# Altium footprint library SSOP.PcbLib: 4 footprints
Each footprint in its own frame and in the unit in brackets; x right, y up, seen from the top. Pads: shape width x height; smd on the part's side, far side on the other; paste and mask are expansions set on the pad; w line width, h text height; cw(c..) or ccw(c..) is an arc to the next point about the centre after c.
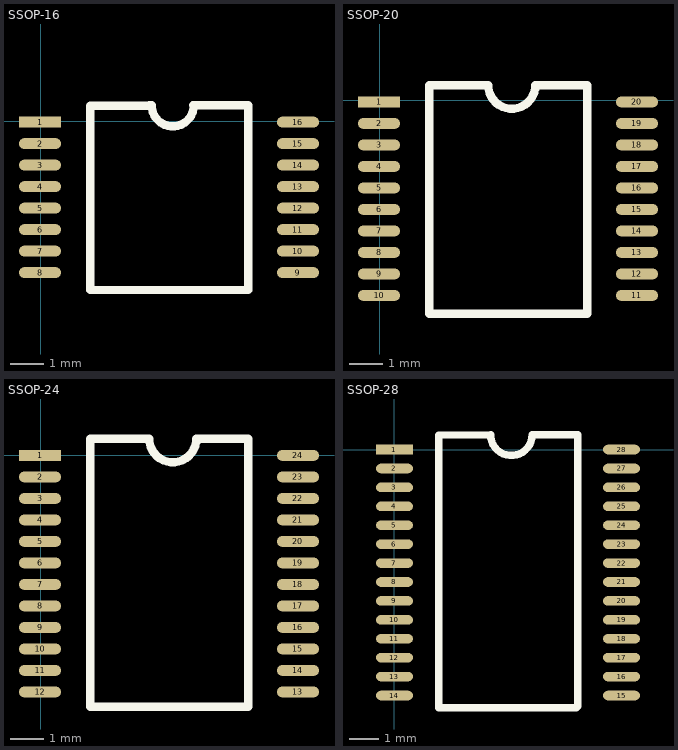
[diagram p0: the footprints below, top view; thin cyan lines are the x and y axes]

## SSOP-16 [mm]
pads (16):
  rect 1.27x0.33 smd: 1(-0.025,-0.025)
  oval 1.27x0.33 smd: 2(-0.025,-0.675) 3(-0.025,-1.325) 4(-0.025,-1.975) 5(-0.025,-2.625) 6(-0.025,-3.275) 7(-0.025,-3.925) 8(-0.025,-4.575) 9(7.775,-4.575) 10(7.775,-3.925) 11(7.775,-3.275) 12(7.775,-2.625) 13(7.775,-1.975) 14(7.775,-1.325) 15(7.775,-0.675) 16(7.775,-0.025)
Top Overlay:
  lines w0.254: 1.499,-5.1 1.499,0.475 3.269,0.475 3.277,0.483 ; 1.549,-5.1 6.274,-5.1 6.274,0.475 6.266,0.483 4.6,0.483 ; 3.353,0.483 ccw(c3.988,0.483) 4.623,0.483

## SSOP-20 [mm]
pads (20):
  rect 1.27x0.33 smd: 1(-0.025,-0.051)
  oval 1.27x0.33 smd: 2(-0.025,-0.701) 3(-0.025,-1.351) 4(-0.025,-2.001) 5(-0.025,-2.651) 6(-0.025,-3.301) 7(-0.025,-3.951) 8(-0.025,-4.601) 9(-0.025,-5.251) 10(-0.025,-5.901) 11(7.775,-5.901) 12(7.775,-5.251) 13(7.775,-4.601) 14(7.775,-3.951) 15(7.775,-3.301) 16(7.775,-2.651) 17(7.775,-2.001) 18(7.775,-1.351) 19(7.775,-0.701) 20(7.775,-0.051)
Top Overlay:
  lines w0.254: 6.223,-6.45 1.499,-6.45 1.499,0.449 3.269,0.449 3.277,0.457 ccw(c3.99,0.457) 4.703,0.457 6.266,0.457 6.274,0.449 6.274,-6.45

## SSOP-24 [mm]
pads (24):
  rect 1.27x0.33 smd: 1(-0.025,0)
  oval 1.27x0.33 smd: 2(-0.025,-0.65) 3(-0.025,-1.3) 4(-0.025,-1.95) 5(-0.025,-2.6) 6(-0.025,-3.25) 7(-0.025,-3.9) 8(-0.025,-4.55) 9(-0.025,-5.2) 10(-0.025,-5.85) 11(-0.025,-6.5) 12(-0.025,-7.15) 13(7.775,-7.15) 14(7.775,-6.5) 15(7.775,-5.85) 16(7.775,-5.2) 17(7.775,-4.55) 18(7.775,-3.9) 19(7.775,-3.25) 20(7.775,-2.6) 21(7.775,-1.95) 22(7.775,-1.3) 23(7.775,-0.65) 24(7.775,0)
Top Overlay:
  lines w0.254: 6.223,-7.6 1.499,-7.6 1.499,0.5 3.269,0.5 3.277,0.508 ccw(c3.99,0.508) 4.703,0.508 6.266,0.508 6.274,0.5 6.274,-7.6

## SSOP-28 [mm]
pads (28):
  rect 1.27x0.33 smd: 1(0,0)
  oval 1.27x0.33 smd: 2(0,-0.65) 3(0,-1.3) 4(0,-1.95) 5(0,-2.6) 6(0,-3.25) 7(0,-3.9) 8(0,-4.55) 9(0,-5.2) 10(0,-5.85) 11(0,-6.5) 12(0,-7.15) 13(0,-7.8) 14(0,-8.45) 15(7.8,-8.45) 16(7.8,-7.8) 17(7.8,-7.15) 18(7.8,-6.5) 19(7.8,-5.85) 20(7.8,-5.2) 21(7.8,-4.55) 22(7.8,-3.9) 23(7.8,-3.25) 24(7.8,-2.6) 25(7.8,-1.95) 26(7.8,-1.3) 27(7.8,-0.65) 28(7.8,0)
Top Overlay:
  lines w0.254: 1.524,-8.865 6.248,-8.865 6.299,-8.814 6.299,0.5 6.291,0.508 4.728,0.508 cw(c4.015,0.508) 3.302,0.508 3.294,0.5 1.524,0.5 1.524,-8.865